# EAGLE library part 4455-C09 (library con-molex-kk)
RECEPTACAL
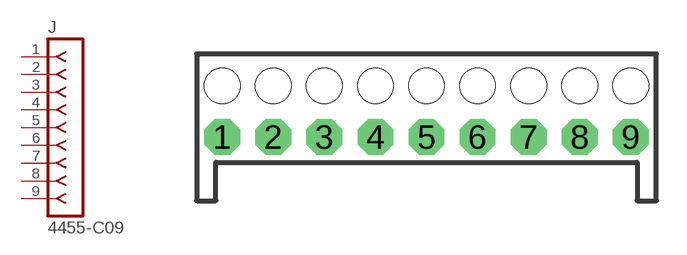
[diagram p100: symbol with the pads of 4455-C09; footprint 4455-C09]

Designator prefix J

## 4455-C09  [4455-C09]
1  1  pas
2  2  pas
3  3  pas
4  4  pas
5  5  pas
6  6  pas
7  7  pas
8  8  pas
9  9  pas

## Footprint 4455-C09 (pad centres in mm)
RECEPTACAL Vertical, Top Entry, 0.1" pitch
drill 1.016 pad 1.778 octagon: 1 -10.16,0; 2 -7.62,0; 3 -5.08,0; 4 -2.54,0; 5 0,0; 6 2.54,0; 7 5.08,0; 8 7.62,0; 9 10.16,0
hole 1.778 at -10.16,2.54
hole 1.778 at -7.62,2.54
hole 1.778 at -5.08,2.54
hole 1.778 at -2.54,2.54
hole 1.778 at 0,2.54
hole 1.778 at 2.54,2.54
hole 1.778 at 5.08,2.54
hole 1.778 at 7.62,2.54
hole 1.778 at 10.16,2.54